# EAGLE library part OPA4376 (library IrradianceMeasurement)
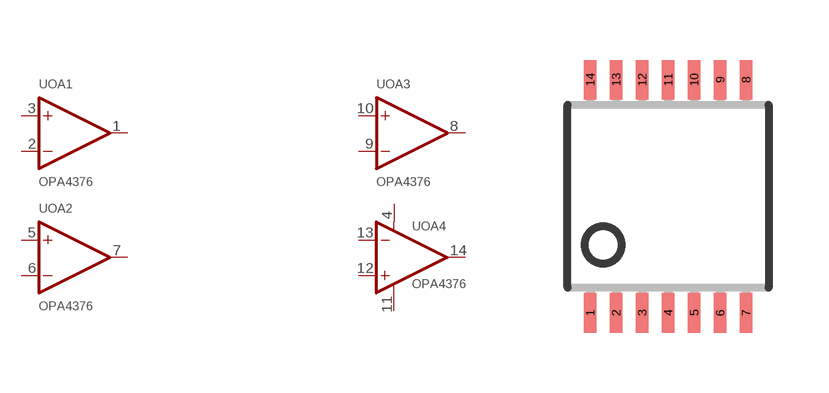
[diagram p1: symbol with the pads of TSSOP14-NOTHERMALPAD; footprint TSSOP14-NOTHERMALPAD]

Designator prefix U; gates OA1=OPAMP OA2=OPAMP OA3=OPAMP OA4=OPAMP+-

## OPA4376TSSOP14  [TSSOP14-NOTHERMALPAD]
1  OA1:OUT  out
2  OA1:-IN  in
3  OA1:+IN  in
4  OA4:V+  pwr
5  OA2:+IN  in
6  OA2:-IN  in
7  OA2:OUT  out
8  OA3:OUT  out
9  OA3:-IN  in
10  OA3:+IN  in
11  OA4:V-  pwr
12  OA4:+IN  in
13  OA4:-IN  in
14  OA4:OUT  out

## Footprint TSSOP14-NOTHERMALPAD (pad centres in mm)
Thin Shrink Small Outline Plastic 14
smd 0.305 x 0.991: 1 -1.95,-2.918; 2 -1.3,-2.918; 3 -0.65,-2.918; 4 0,-2.918; 5 0.65,-2.918; 6 1.3,-2.918; 7 1.95,-2.918; 8 1.95,2.918; 9 1.3,2.918; 10 0.65,2.918; 11 0,2.918; 12 -0.65,2.918; 13 -1.3,2.918; 14 -1.95,2.918